# Altium schematic symbol library lm5576mh_nopb.SchLib: 1 symbol
Pins are listed as number, name and electrical type; pins without a type are passive.

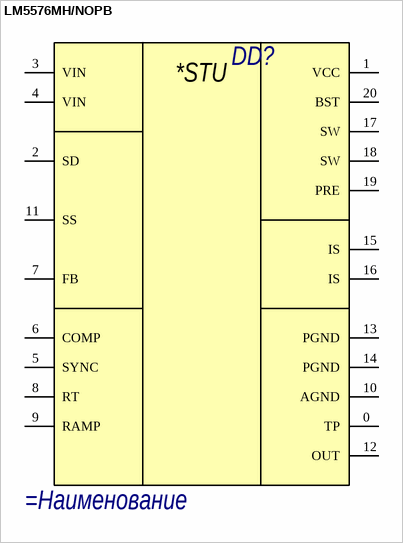
[diagram p0: symbol LM5576MH/NOPB]

## LM5576MH/NOPB
designator DD?
=Описание
pins: 0 TP, 1 VCC, 2 SD, 3 VIN, 4 VIN, 5 SYNC, 6 COMP, 7 FB, 8 RT, 9 RAMP, 10 AGND, 11 SS, 12 OUT, 13 PGND, 14 PGND, 15 IS, 16 IS, 17 SW, 18 SW, 19 PRE, 20 BST
text: *STU